# Altium footprint library PCB.PcbLib: 14 footprints
Each footprint in its own frame and in the unit in brackets; x right, y up, seen from the top. Pads: shape width x height; smd on the part's side, far side on the other; paste and mask are expansions set on the pad; w line width, h text height; cw(c..) or ccw(c..) is an arc to the next point about the centre after c.
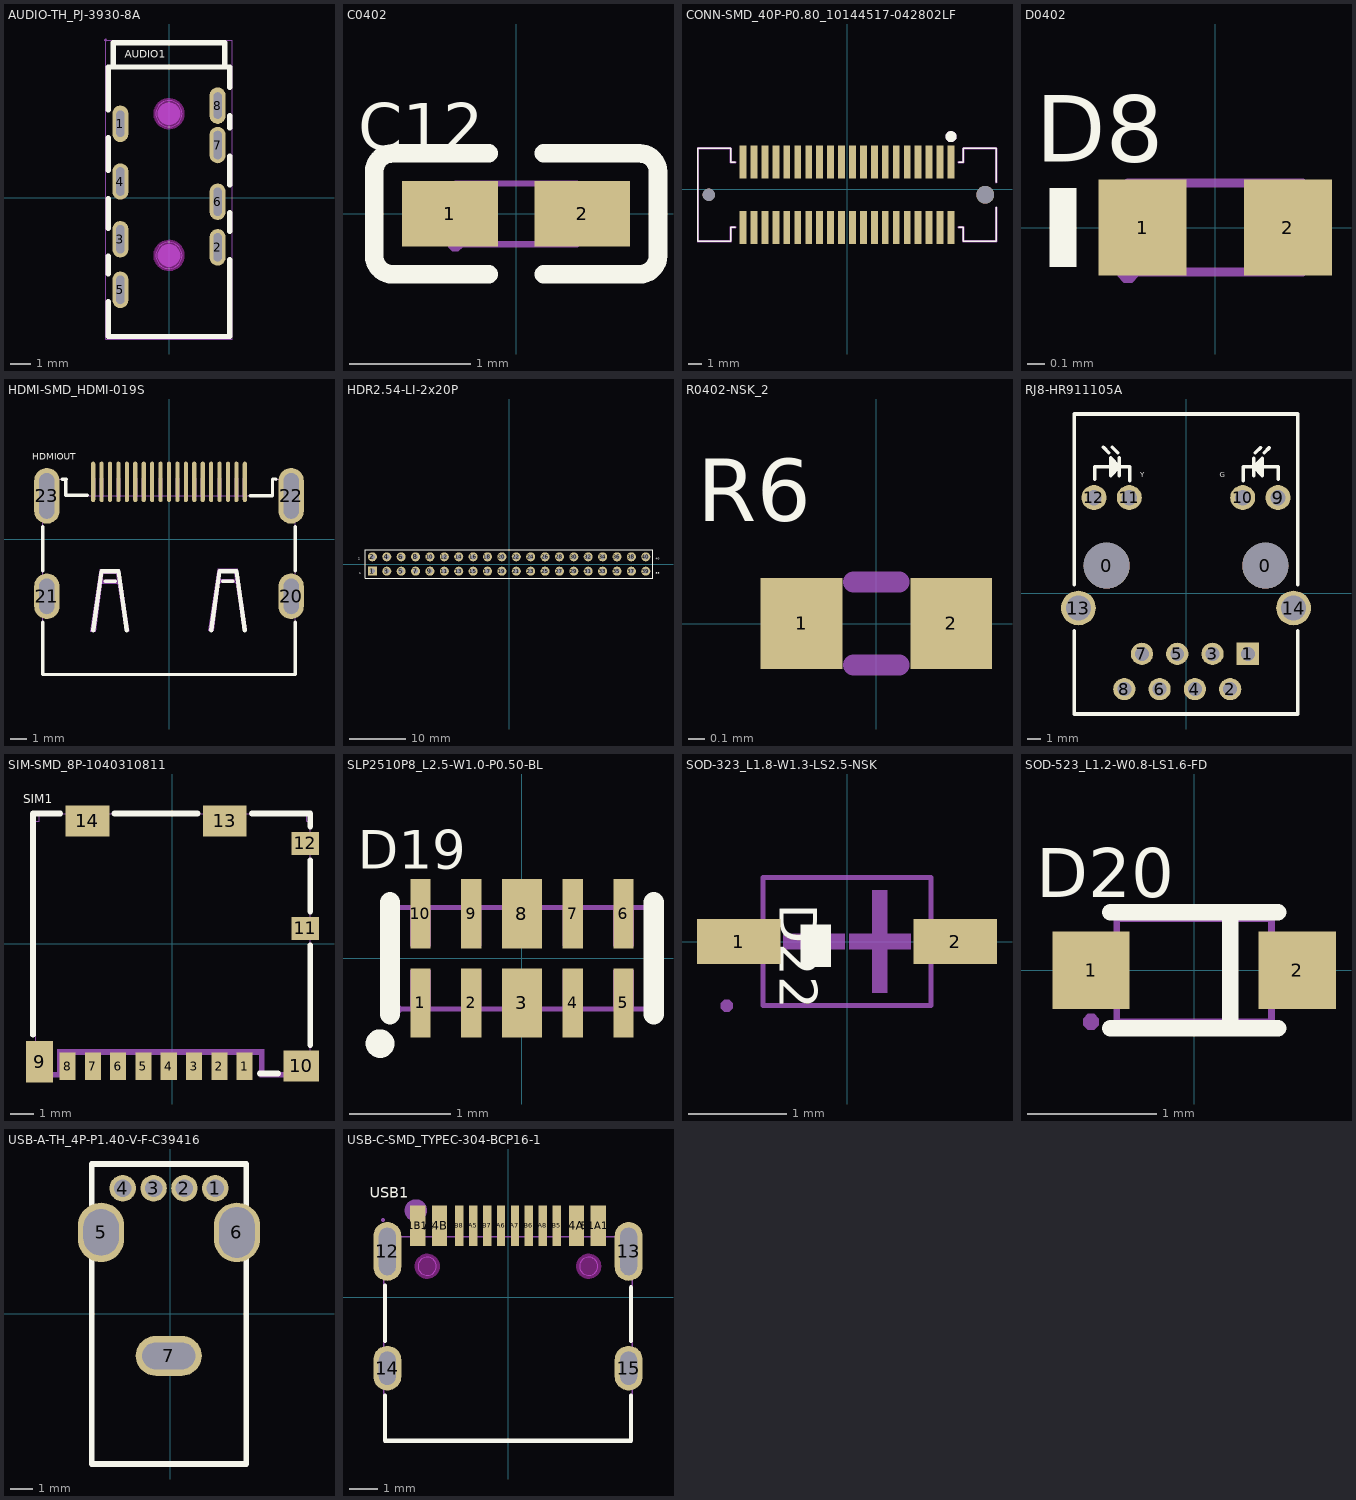
[diagram p0: the footprints below, top view; thin cyan lines are the x and y axes]

## AUDIO-TH_PJ-3930-8A [mil]
pads (8):
  oval 31.5x70.9 hole 15.7 slot 51.2 at 90 deg paste+0 mask+2: 1(-94.5,143.7) 8(94.5,179.1)
  oval 31.5x70.9 hole 15.7 slot 55.1 at 90 deg paste+0 mask+2: 2(94.5,-96.5) 3(-94.5,-80.7) 4(-94.5,31.5) 5(-94.5,-179.1) 6(94.5,-7.9) 7(94.5,102.4)
Top Overlay:
  lines w10: -118.1,-202.4 -118.1,-269.7 118.1,-269.7 118.1,-119.8 ; -118.1,-148 -118.1,-113.9 ; -118.1,-59.5 -118.1,-1.6 ; -118.1,52.8 -118.1,116.5 ; -118.1,170.9 -118.1,253.9 90,253.9 118.1,253.9 118.1,214.2 ; -108.3,253.9 -108.3,301.2 108.3,301.2 108.3,253.9 ; 118.1,-65.4 118.1,-29.2 ; 118.1,25.2 118.1,81 ; 118.1,135.4 118.1,159.8
  text "AUDIO1" at -86.5,272.3 h15
Keep-Out Layer:
  board cut-out: -25.6,-112.2 -25.6,-115.57 -23.86,-122.08 -20.49,-127.92 -15.72,-132.69 -9.88,-136.06 -3.37,-137.8 3.37,-137.8 9.88,-136.06 15.72,-132.69 20.48,-127.92 23.86,-122.08 25.6,-115.57 25.6,-112.2 25.6,-108.83 23.86,-102.32 20.48,-96.48 15.72,-91.72 9.88,-88.34 3.37,-86.6 -3.37,-86.6 -9.88,-88.34 -15.72,-91.72 -20.49,-96.48 -23.86,-102.32 -25.6,-108.83 -25.6,-112.2
  board cut-out: -25.6,163.3 -25.6,159.93 -23.86,153.42 -20.49,147.58 -15.72,142.81 -9.88,139.44 -3.37,137.7 3.37,137.7 9.88,139.44 15.72,142.81 20.48,147.58 23.86,153.42 25.6,159.93 25.6,163.3 25.6,166.67 23.86,173.18 20.48,179.02 15.72,183.78 9.88,187.16 3.37,188.9 -3.37,188.9 -9.88,187.16 -15.72,183.78 -20.49,179.02 -23.86,173.18 -25.6,166.67 -25.6,163.3
Keep-Out Layer:
  circle w10: c0,-112.2 r25.6
  circle w0.2: c0,-112.2 r25.6
  circle w10: c0,163.3 r25.6
  circle w0.2: c0,163.3 r25.6
Mechanical 1:
  circle w0.2: c0,-112.2 r25.6
  circle w0.2: c0,163.3 r25.6
Mechanical 15:
  region: 88.2,161.4 88.2,196.8 100.8,196.8 100.8,161.4
  region: 88.2,82.7 88.2,122.1 100.8,122.1 100.8,82.7
  region: 88.2,-27.6 88.2,11.8 100.8,11.8 100.8,-27.6
  region: -100.8,-198.9 -100.8,-159.5 -88.2,-159.5 -88.2,-198.9
  region: -100.8,11.8 -100.8,51.1 -88.2,51.1 -88.2,11.8
  region: -100.8,-100.3 -100.8,-61 -88.2,-61 -88.2,-100.3
  region: 88.2,-116.1 88.2,-76.7 100.8,-76.7 100.8,-116.1
  region: -100.8,126 -100.8,161.4 -88.2,161.4 -88.2,126
  region: -125.5,306.2 -125.5,305.21 -124.09,303.8 -122.11,303.8 -120.7,305.21 -120.7,306.2 -120.7,307.19 -122.11,308.6 -124.09,308.6 -125.5,307.19 -125.5,306.2
  region: -21.7,-112.2 -21.7,-116.52 -18.4,-124.49 -12.29,-130.6 -4.32,-133.9 4.32,-133.9 12.29,-130.6 18.4,-124.49 21.7,-116.52 21.7,-112.2 21.7,-107.88 18.4,-99.91 12.29,-93.8 4.32,-90.5 -4.32,-90.5 -12.29,-93.8 -18.4,-99.91 -21.7,-107.88 -21.7,-112.2
  region: -21.7,163.3 -21.7,158.98 -18.4,151.01 -12.29,144.9 -4.32,141.6 4.32,141.6 12.29,144.9 18.4,151.01 21.7,158.98 21.7,163.3 21.7,167.62 18.4,175.59 12.29,181.7 4.32,185 -4.32,185 -12.29,181.7 -18.4,175.59 -21.7,167.62 -21.7,163.3
  lines w2: -123.1,-274.7 -123.1,306.2 123.1,306.2 123.1,-274.7 -123.1,-274.7

## C0402 [mm]
pads (2):
  rect 0.79x0.54 smd paste-100 mask+0.051: 1(-0.545,0) 2(0.545,0)
Top Overlay:
  lines w0.152: -0.226,-0.499 -1.016,-0.499 cw(c-1.016,-0.346) -1.169,-0.346 -1.169,0.346 cw(c-1.016,0.346) -1.016,0.499 -0.226,0.499 ; 0.226,-0.499 1.016,-0.499 ccw(c1.016,-0.346) 1.169,-0.346 1.169,0.346 ccw(c1.016,0.346) 1.016,0.499 0.226,0.499
  text "C12" at -1.302,0.527 h0.38
Top Paste:
  region: 0.78,0.225 0.78,-0.225 0.73,-0.275 0.25,-0.275 0.18,-0.225 0.18,0.225 0.25,0.275 0.73,0.275
  region: -0.18,0.225 -0.18,-0.225 -0.25,-0.275 -0.73,-0.275 -0.78,-0.225 -0.78,0.225 -0.73,0.275 -0.25,0.275
Mechanical 15:
  region: 0.5,-0.25 0.5,0.25 0.25,0.25 0.25,-0.25
  region: -0.5,-0.25 -0.5,0.25 -0.25,0.25 -0.25,-0.25
  region: -0.44,-0.25 -0.44,-0.225 -0.475,-0.19 -0.525,-0.19 -0.56,-0.225 -0.56,-0.25 -0.56,-0.275 -0.525,-0.31 -0.475,-0.31 -0.44,-0.275 -0.44,-0.25
  lines w0.051: -0.5,-0.25 0.5,-0.25 0.5,0.25 -0.5,0.25 -0.5,-0.25

## CONN-SMD_40P-P0.80_10144517-042802LF [mm]
pads (42):
  rect 0.5x2.4 smd paste+0 mask+0.051: 1(7.6,1.975) 2(7.6,-2.825) 3(6.8,1.975) 4(6.8,-2.825) 5(6,1.975) 6(6,-2.825) 7(5.2,1.975) 8(5.2,-2.825) 9(4.4,1.975) 10(4.4,-2.825) 11(3.6,1.975) 12(3.6,-2.825) 13(2.8,1.975) 14(2.8,-2.825) 15(2,1.975) 16(2,-2.825) 17(1.2,1.975) 18(1.2,-2.825) 19(0.4,1.975) 20(0.4,-2.825) 21(-0.4,1.975) 22(-0.4,-2.825) 23(-1.2,1.975) 24(-1.2,-2.825) 25(-2,1.975) 26(-2,-2.825) 27(-2.8,1.975) 28(-2.8,-2.825) 29(-3.6,1.975) 30(-3.6,-2.825) 31(-4.4,1.975) 32(-4.4,-2.825) 33(-5.2,1.975) 34(-5.2,-2.825) 35(-6,1.975) 36(-6,-2.825) 37(-6.8,1.975) 38(-6.8,-2.825) 39(-7.6,1.975) 40(-7.6,-2.825)
  round 0.9 hole 0.9 unplated paste+0: ""(-10.1,-0.425)
  round 1.3 hole 1.3 unplated paste+0: ""(10.1,-0.425)
Top Overlay:
  circle w0.4: c7.6,3.825 r0.2
  lines w0.127: -8.165,-2.8 -8.5,-2.8 -8.5,-3.825 -10.9,-3.825 -10.9,2.975 -8.5,2.975 -8.5,1.95 -8.165,1.95 ; 8.165,-2.8 8.5,-2.8 8.5,-3.825 10.9,-3.825 10.9,-1.345 ; 8.165,1.95 8.5,1.95 8.5,2.975 10.9,2.975 10.9,0.495
Mechanical 15:
  circle w0.4: c-10.1,-0.425 r0.2
  circle w0.6: c10.1,-0.425 r0.3
  circle w0.4: c7.6,3.825 r0.2
  region: 8.165,-2.736 8.5,-2.736 8.512,-2.736 8.536,-2.746 8.553,-2.764 8.563,-2.787 8.563,-2.8 8.563,-3.761 10.836,-3.761 10.836,-1.345 10.836,-1.319 10.873,-1.281 10.926,-1.281 10.963,-1.319 10.963,-1.345 10.963,-3.825 10.963,-3.838 10.954,-3.861 10.936,-3.879 10.912,-3.888 10.9,-3.888 8.5,-3.888 8.487,-3.888 8.464,-3.879 8.446,-3.861 8.436,-3.838 8.436,-3.825 8.436,-2.863 8.165,-2.863 8.139,-2.863 8.101,-2.826 8.101,-2.773 8.139,-2.736 8.165,-2.736
  region: 8.165,2.014 8.436,2.014 8.436,2.975 8.436,2.988 8.446,3.011 8.464,3.029 8.487,3.039 8.5,3.039 10.9,3.039 10.912,3.039 10.936,3.029 10.954,3.011 10.963,2.988 10.963,2.975 10.963,0.495 10.963,0.469 10.926,0.432 10.873,0.432 10.836,0.469 10.836,0.495 10.836,2.912 8.563,2.912 8.563,1.95 8.563,1.937 8.553,1.914 8.536,1.896 8.512,1.887 8.5,1.887 8.165,1.887 8.139,1.887 8.101,1.924 8.101,1.976 8.139,2.014 8.165,2.014
  region: -8.165,-2.863 -8.437,-2.863 -8.437,-3.825 -8.437,-3.838 -8.446,-3.861 -8.464,-3.879 -8.487,-3.888 -8.5,-3.888 -10.9,-3.888 -10.913,-3.888 -10.936,-3.879 -10.954,-3.861 -10.964,-3.838 -10.964,-3.825 -10.964,2.975 -10.964,2.988 -10.954,3.011 -10.936,3.029 -10.913,3.039 -10.9,3.039 -8.5,3.039 -8.487,3.039 -8.464,3.029 -8.446,3.011 -8.437,2.988 -8.437,2.975 -8.437,2.014 -8.165,2.014 -8.139,2.014 -8.102,1.976 -8.102,1.924 -8.139,1.887 -8.165,1.887 -8.5,1.887 -8.513,1.887 -8.536,1.896 -8.554,1.914 -8.564,1.937 -8.564,1.95 -8.564,2.912 -10.837,2.912 -10.837,-3.761 -8.564,-3.761 -8.564,-2.8 -8.564,-2.787 -8.554,-2.764 -8.536,-2.746 -8.513,-2.736 -8.5,-2.736 -8.165,-2.736 -8.139,-2.736 -8.102,-2.773 -8.102,-2.826 -8.139,-2.863 -8.165,-2.863

## D0402 [mm]
pads (2):
  rect 0.505x0.551 smd paste-100 mask+0.051: 1(-0.417,0) 2(0.417,0)
Top Overlay:
  region: -0.796,-0.225 -0.796,0.225 -0.949,0.225 -0.949,-0.225
  text "D8" at -1.027,0.377 h0.38
Top Paste:
  region: -0.148,0.235 -0.148,-0.235 -0.188,-0.275 -0.628,-0.275 -0.669,-0.235 -0.669,0.235 -0.628,0.275 -0.188,0.275
  region: 0.148,0.235 0.148,-0.235 0.188,-0.275 0.628,-0.275 0.669,-0.235 0.669,0.235 0.628,0.275 0.188,0.275
Mechanical 6:
  region: -0.439,-0.031 -0.439,0.031 -0.194,0.031 -0.194,-0.031
  region: 0.439,-0.031 0.439,0.031 0.194,0.031 0.194,-0.031
  region: 0.347,-0.204 0.347,0.204 0.286,0.204 0.286,-0.204
Mechanical 15:
  region: -0.5,-0.195 -0.525,-0.196 -0.559,-0.231 -0.559,-0.279 -0.525,-0.314 -0.5,-0.315 -0.476,-0.314 -0.441,-0.279 -0.441,-0.231 -0.476,-0.196 -0.5,-0.195
  region: -0.5,-0.255 -0.5,0.255 -0.26,0.255 -0.26,-0.255
  region: 0.5,-0.255 0.5,0.255 0.26,0.255 0.26,-0.255
  lines w0.051: -0.5,-0.255 -0.5,0.255 0.5,0.255 0.5,-0.255 -0.5,-0.255

## HDMI-SMD_HDMI-019S [mm]
pads (23):
  oval 0.25x2.4 smd paste-100 mask+0.051: 1(4.501,3.396) 2(4.001,3.396) 3(3.501,3.396) 4(3.001,3.396) 5(2.5,3.396) 6(2,3.396) 7(1.5,3.396) 8(1,3.396) 9(0.5,3.396) 10(0,3.396) 11(-0.5,3.396) 12(-1,3.396) 13(-1.5,3.396) 14(-2,3.396) 15(-2.5,3.396) 16(-3.001,3.396) 17(-3.501,3.396) 18(-4.001,3.396) 19(-4.501,3.396)
  oval 1.5x2.7 hole 0.9 slot 2.1 at 90 deg copper offset -0.001,0.001 paste+0 mask+0.051: 20(7.251,-3.397)
  oval 1.5x2.7 hole 0.9 slot 2.1 at 90 deg copper offset 0.001,0.001 paste+0 mask+0.051: 21(-7.251,-3.397)
  oval 1.5x3.3 hole 0.9 slot 2.7 at 90 deg copper offset -0.001,0.001 paste+0 mask+0.051: 22(7.251,2.563)
  oval 1.5x3.3 hole 0.9 slot 2.7 at 90 deg copper offset 0.001,0.001 paste+0 mask+0.051: 23(-7.251,2.563)
Top Overlay:
  lines w0.2: -7.5,-4.917 -7.5,-8.036 7.5,-8.036 7.5,-4.917 ; -7.5,-1.875 -7.5,0.743 ; -6.35,3.557 -6.107,3.557 -6.107,3.545 -6.12,3.545 -6.12,2.592 -4.837,2.592 ; -3.8,-2.504 -3.2,-2.504 ; 3.2,-2.504 3.8,-2.504 ; 4.83,2.565 6.08,2.565 6.08,2.575 6.145,2.575 6.145,3.563 6.352,3.563 6.352,3.556 ; 7.5,-1.876 7.5,0.743
  lines w0.254: -4.5,-5.404 -4,-1.904 -3,-1.904 -2.5,-5.404 ; 2.5,-5.404 3,-1.904 4,-1.904 4.5,-5.404
  text "HDMIOUT" at -8.127,4.698 h0.38
Top Paste:
  drawing of 23 lines, arcs and shapes, not listed
Mechanical 6:
  region: 2.332,-5.448 2.642,-5.448 3.084,-2.014 3.875,-2.005 4.392,-5.457 4.627,-5.439 4.082,-1.751 2.896,-1.751
  region: 3.047,-2.381 3.884,-2.362 3.931,-2.598 3.037,-2.607
  region: -3.951,-2.419 -3.114,-2.4 -3.067,-2.636 -3.961,-2.645
  region: -4.666,-5.486 -4.356,-5.486 -3.914,-2.052 -3.123,-2.043 -2.606,-5.495 -2.371,-5.477 -2.916,-1.789 -4.102,-1.789
Mechanical 15:
  region: 4.391,3.596 4.611,3.596 4.611,2.496 4.391,2.496
  region: 7,-2.896 7.5,-2.896 7.5,-3.896 7,-3.896
  region: -7.5,-2.896 -7,-2.896 -7,-3.896 -7.5,-3.896
  region: -7.5,3.564 -7,3.564 -7,1.564 -7.5,1.564
  region: 7,3.564 7.5,3.564 7.5,1.564 7,1.564
  region: -0.11,3.596 0.11,3.596 0.11,2.496 -0.11,2.496
  region: 0.39,3.596 0.61,3.596 0.61,2.496 0.39,2.496
  region: 0.89,3.596 1.11,3.596 1.11,2.496 0.89,2.496
  region: 1.39,3.596 1.61,3.596 1.61,2.496 1.39,2.496
  region: 1.89,3.596 2.11,3.596 2.11,2.496 1.89,2.496
  region: 2.39,3.596 2.61,3.596 2.61,2.496 2.39,2.496
  region: 2.891,3.596 3.111,3.596 3.111,2.496 2.891,2.496
  region: 3.391,3.596 3.611,3.596 3.611,2.496 3.391,2.496
  region: 3.891,3.596 4.111,3.596 4.111,2.496 3.891,2.496
  region: -0.61,3.596 -0.39,3.596 -0.39,2.496 -0.61,2.496
  region: -1.11,3.596 -0.89,3.596 -0.89,2.496 -1.11,2.496
  region: -1.61,3.596 -1.39,3.596 -1.39,2.496 -1.61,2.496
  region: -2.11,3.596 -1.89,3.596 -1.89,2.496 -2.11,2.496
  region: -2.61,3.596 -2.39,3.596 -2.39,2.496 -2.61,2.496
  region: -3.111,3.596 -2.891,3.596 -2.891,2.496 -3.111,2.496
  region: -3.611,3.596 -3.391,3.596 -3.391,2.496 -3.611,2.496
  region: -4.111,3.596 -3.891,3.596 -3.891,2.496 -4.111,2.496
  region: -4.611,3.596 -4.391,3.596 -4.391,2.496 -4.611,2.496
  region: 7.56,3.596 7.56,3.621 7.525,3.655 7.476,3.655 7.441,3.621 7.44,3.596 7.441,3.572 7.476,3.537 7.525,3.537 7.56,3.572 7.56,3.596
  lines w0.051: -7.5,-8.036 -7.5,3.564 -6.1,3.564 -6.1,2.567 6.1,2.567 6.1,3.564 7.5,3.564 7.5,-8.036 -7.5,-8.036

## HDR2.54-LI-2x20P [mm]
pads (40):
  rect 1.6x1.6 hole 0.9: 1(-24.13,-1.27)
  round 1.6 hole 0.9: 2(-24.13,1.27) 3(-21.59,-1.27) 4(-21.59,1.27) 5(-19.05,-1.27) 6(-19.05,1.27) 7(-16.51,-1.27) 8(-16.51,1.27) 9(-13.97,-1.27) 10(-13.97,1.27) 11(-11.43,-1.27) 12(-11.43,1.27) 13(-8.89,-1.27) 14(-8.89,1.27) 15(-6.35,-1.27) 16(-6.35,1.27) 17(-3.81,-1.27) 18(-3.81,1.27) 19(-1.27,-1.27) 20(-1.27,1.27) 21(1.27,-1.27) 22(1.27,1.27) 23(3.81,-1.27) 24(3.81,1.27) 25(6.35,-1.27) 26(6.35,1.27) 27(8.89,-1.27) 28(8.89,1.27) 29(11.43,-1.27) 30(11.43,1.27) 31(13.97,-1.27) 32(13.97,1.27) 33(16.51,-1.27) 34(16.51,1.27) 35(19.05,-1.27) 36(19.05,1.27) 37(21.59,-1.27) 38(21.59,1.27) 39(24.13,-1.27) 40(24.13,1.27)
Top Overlay:
  lines w0.2: -25.4,-2.54 -25.4,2.54 25.4,2.54 25.4,-2.54 -25.4,-2.54
  text "39" at 25.908,-1.778 h0.38
  text "40" at 25.908,0.762 h0.38
  text "2" at -26.67,0.762 h0.38
  text "1" at -26.416,-1.778 h0.38
3D body: height 8.5, standoff -3, extent -22.86,-2.54 -20.32,2.54
3D body: height 8.5, standoff -3, extent -25.4,-2.54 -22.86,2.54
3D body: height 8.5, standoff -3, extent -17.78,-2.54 -15.24,2.54
3D body: height 8.5, standoff -3, extent -20.32,-2.54 -17.78,2.54
3D body: height 8.5, standoff -3, extent -12.7,-2.54 -10.16,2.54
3D body: height 8.5, standoff -3, extent -15.24,-2.54 -12.7,2.54
3D body: height 8.5, standoff -3, extent -7.62,-2.54 -5.08,2.54
3D body: height 8.5, standoff -3, extent -10.16,-2.54 -7.62,2.54
3D body: height 8.5, standoff -3, extent -2.54,-2.54 0,2.54
3D body: height 8.5, standoff -3, extent -5.08,-2.54 -2.54,2.54
3D body: height 8.5, standoff -3, extent 2.54,-2.54 5.08,2.54
3D body: height 8.5, standoff -3, extent 0,-2.54 2.54,2.54
3D body: height 8.5, standoff -3, extent 7.62,-2.54 10.16,2.54
3D body: height 8.5, standoff -3, extent 5.08,-2.54 7.62,2.54
3D body: height 8.5, standoff -3, extent 12.7,-2.54 15.24,2.54
3D body: height 8.5, standoff -3, extent 10.16,-2.54 12.7,2.54
3D body: height 8.5, standoff -3, extent 17.78,-2.54 20.32,2.54
3D body: height 8.5, standoff -3, extent 15.24,-2.54 17.78,2.54
3D body: height 8.5, standoff -3, extent 22.86,-2.54 25.4,2.54
3D body: height 8.5, standoff -3, extent 20.32,-2.54 22.86,2.54

## R0402-NSK_2 [mil]
pads (2):
  rect 19.68x22 smd paste+0 mask+2: 1(-18,0) 2(18,0)
Top Overlay:
  text "R6" at -43.17,24.63 h15
Mechanical 6:
  lines w5: -5.5,-10 5.5,-10 ; -5.5,10 5.5,10

## RJ8-HR911105A [mm]
pads (16):
  round 3.3 hole 3.3 unplated: 0(-5.715,1.995) 0(5.715,1.995)
  rect 1.6x1.6 hole 1: 1(4.45,-4.355)
  round 1.6 hole 1: 2(3.18,-6.895) 3(1.91,-4.355) 4(0.64,-6.895) 5(-0.63,-4.355) 6(-1.9,-6.895) 7(-3.17,-4.355) 8(-4.44,-6.895)
  round 1.8 hole 1.1: 9(6.625,6.895) 10(4.085,6.895) 11(-4.085,6.895) 12(-6.625,6.895)
  round 2.5 hole 1.8: 13(-7.745,-1.055) 14(7.745,-1.055)
Top Overlay:
  lines w0.25: -6.577,8.23 -6.577,9.119 -4.037,9.119 -4.037,8.103 ; -5.942,10.516 -5.561,10.135 ; -5.307,10.516 -4.926,10.135 ; -5.207,8.726 -5.207,9.527 ; -4.799,8.484 -4.799,9.754 ; 4.106,8.091 4.106,9.107 6.646,9.107 6.646,8.218 ; 4.868,8.472 4.868,9.742 ; 4.995,10.123 5.376,10.504 ; 5.276,8.714 5.276,9.515 ; 5.63,10.123 6.011,10.504 ; -5.434,8.484 -4.799,9.119 -5.434,9.754 -5.434,8.484 ; 4.868,9.107 5.503,8.472 5.503,9.742 4.868,9.107
  lines w0.254: -8.05,-8.685 8.05,-8.685 8.05,-2.685 ; -8.05,-8.685 -8.05,-2.685 ; -8.05,0.615 -8.05,12.915 8.05,12.915 8.05,0.615
  text "Y" at -3.302,8.345 h0.38
  text "G" at 2.413,8.345 h0.38
Mechanical 15:
  circle w0.2: c5.03,-4.96 r0.1
3D body: height 1.5, standoff -15, extent -8.001,-8.578 7.879,12.822

## SIM-SMD_8P-1040310811 [mm]
pads (14):
  rect 0.7x1.2 smd paste+0 mask+0.051: 1(3.138,-5.337) 2(2.037,-5.337) 3(0.938,-5.337) 4(-0.162,-5.337) 5(-1.263,-5.337) 6(-2.363,-5.337) 7(-3.462,-5.337) 8(-4.562,-5.337)
  rect 1.17x1.8 smd paste+0 mask+0.051: 9(-5.773,-5.138)
  rect 1.55x1.35 smd paste+0 mask+0.051: 10(5.598,-5.313)
  rect 1.2x1 smd paste+0 mask+0.051: 11(5.773,0.663) 12(5.773,4.363)
  rect 1.9x1.35 smd paste+0 mask+0.051: 13(2.273,5.337) 14(-3.697,5.337)
Top Overlay:
  lines w0.254: -6.071,-3.956 -6.071,5.665 -4.879,5.665 ; -2.516,5.665 1.091,5.665 ; 3.454,5.665 5.994,5.665 5.994,5.094 ; 3.794,-5.638 4.591,-5.638 ; 5.994,-4.406 5.994,-0.069 ; 5.994,1.394 5.994,3.631
  text "SIM1" at -6.485,6.114 h0.38
Mechanical 6:
  region: -6,-5.8 -4.8,-5.8 -4.8,-5.6 -6,-5.6
  region: 3.8,-5.8 6,-5.8 6,-5.6 3.8,-5.6
  region: 3.8,-5.6 3.8,-4.8 4,-4.8 4,-5.6
  region: -4.8,-5.6 -4.8,-4.8 -5,-4.8 -5,-5.6
  region: -5,-4.8 4,-4.8 4,-4.6 -5,-4.6
Mechanical 15:
  region: 6.002,-5.69 5.978,-5.691 5.944,-5.726 5.944,-5.774 5.978,-5.809 6.002,-5.81 6.026,-5.809 6.06,-5.774 6.06,-5.726 6.026,-5.691 6.002,-5.69
  region: -5.963,-4.437 -5.313,-4.437 -5.313,-5.738 -5.963,-5.738
  region: 5.002,-4.9 6.002,-4.9 6.002,-5.75 5.002,-5.75
  region: 5.352,0.988 6.002,0.988 6.002,0.338 5.352,0.338
  region: 5.352,4.688 6.002,4.688 6.002,4.038 5.352,4.038
  region: 1.572,5.65 2.972,5.65 2.972,4.75 1.572,4.75
  region: -4.397,5.65 -2.997,5.65 -2.997,4.75 -4.397,4.75
  region: -4.732,-4.75 -4.392,-4.75 -4.392,-5.7 -4.732,-5.7
  region: -3.632,-4.75 -3.292,-4.75 -3.292,-5.7 -3.632,-5.7
  region: -2.533,-4.75 -2.193,-4.75 -2.193,-5.7 -2.533,-5.7
  region: -1.432,-4.75 -1.092,-4.75 -1.092,-5.7 -1.432,-5.7
  region: -0.332,-4.75 0.008,-4.75 0.008,-5.7 -0.332,-5.7
  region: 0.768,-4.75 1.108,-4.75 1.108,-5.7 0.768,-5.7
  region: 1.867,-4.75 2.207,-4.75 2.207,-5.7 1.867,-5.7
  region: 2.968,-4.75 3.308,-4.75 3.308,-5.7 2.968,-5.7
  lines w0.051: -5.95,-5.75 -4.86,-5.75 -4.86,-4.8 3.8,-4.8 3.8,-5.75 6,-5.75 6,5.33 5.85,5.33 5.85,5.65 -5.8,5.65 -5.8,5.33 -5.95,5.33 -5.95,-5.75

## SLP2510P8_L2.5-W1.0-P0.50-BL [mm]
pads (10):
  rect 0.201x0.681 smd paste+0 mask+0.051: 1(-1.001,-0.439) 2(-0.5,-0.439) 4(0.5,-0.439) 5(1.001,-0.439) 6(1.001,0.439) 7(0.5,0.439) 9(-0.5,0.439) 10(-1.001,0.439)
  rect 0.399x0.681 smd paste+0 mask+0.051: 3(0,-0.439) 8(0,0.439)
Top Overlay:
  circle w0.201: c-1.4,-0.841 r0.041
  lines w0.201: -1.3,-0.551 -1.3,0.551 ; 1.3,-0.551 1.3,0.551
  text "D19" at -1.617,0.881 h0.38
Mechanical 6:
  circle w0.099: c-1.001,-0.439 r0.051
Mechanical 15:
  region: 0.191,0.119 -0.191,0.119 -0.191,0.521 0.191,0.521
  region: -1.1,-0.119 -0.899,-0.119 -0.899,-0.5 -1.1,-0.5
  region: -0.599,-0.119 -0.401,-0.119 -0.401,-0.5 -0.599,-0.5
  region: -0.191,-0.119 0.191,-0.119 0.191,-0.521 -0.191,-0.521
  region: 0.599,0.119 0.401,0.119 0.401,0.5 0.599,0.5
  region: 1.1,0.119 0.899,0.119 0.899,0.5 1.1,0.5
  region: -0.899,0.119 -1.1,0.119 -1.1,0.5 -0.899,0.5
  region: -0.401,0.119 -0.599,0.119 -0.599,0.5 -0.401,0.5
  region: 0.899,-0.119 1.1,-0.119 1.1,-0.5 0.899,-0.5
  region: 0.401,-0.119 0.599,-0.119 0.599,-0.5 0.401,-0.5
  region: -1.311,-0.5 -1.311,-0.526 -1.275,-0.561 -1.224,-0.561 -1.189,-0.526 -1.189,-0.5 -1.189,-0.475 -1.224,-0.439 -1.275,-0.439 -1.311,-0.475 -1.311,-0.5
  lines w0.051: -1.25,-0.5 -1.25,0.5 1.25,0.5 1.25,-0.5 -1.25,-0.5

## SOD-323_L1.8-W1.3-LS2.5-NSK [mm]
pads (2):
  rect 0.846x0.455 smd paste+0 mask+0.051: 1(-1.097,0) 2(1.097,0)
Top Overlay:
  region: -0.165,0.168 -0.165,-0.254 -0.47,-0.254 -0.47,0.168
  text "D22" at -0.682,0.381 h0.38
Mechanical 6:
  region: -0.645,0.079 -0.645,-0.079 -0.02,-0.079 -0.02,0.079
  region: 0.645,0.079 0.645,-0.079 0.02,-0.079 0.02,0.079
  region: 0.409,0.521 0.409,-0.521 0.254,-0.521 0.254,0.521
Mechanical 15:
  region: -1.28,-0.65 -1.28,-0.675 -1.244,-0.711 -1.194,-0.711 -1.158,-0.675 -1.158,-0.65 -1.158,-0.625 -1.194,-0.589 -1.244,-0.589 -1.28,-0.625 -1.28,-0.65
  region: -0.841,0.16 -0.841,-0.16 -0.96,-0.16 -0.96,0.16
  region: -0.95,0.16 -0.95,-0.16 -1.25,-0.16 -1.25,0.16
  region: 0.96,0.16 0.96,-0.16 0.841,-0.16 0.841,0.16
  region: 1.25,0.16 1.25,-0.16 0.95,-0.16 0.95,0.16
  lines w0.051: -0.851,-0.65 0.851,-0.65 0.851,0.65 -0.851,0.65 -0.851,-0.65

## SOD-523_L1.2-W0.8-LS1.6-FD [mil]
pads (2):
  rect 23.6x23.6 smd paste+0 mask+2: 1(-31.5,0) 2(31.5,0)
Top Overlay:
  lines w5.1: -25.6,-17.7 25.6,-17.7 ; -25.6,17.7 25.6,17.7 ; 11,-17.5 11,16
  text "D20" at -48.3,22.25 h15
Mechanical 6:
  region: -34.5,10.5 -30.6,10.5 -30.6,-11.2 -34.5,-11.2
  region: 23.6,2 37.4,2 37.4,-2 23.6,-2
  region: -39.4,2 -25.6,2 -25.6,-2 -39.4,-2
Mechanical 15:
  region: 31.5,-5.9 20,-5.9 20,5.9 31.5,5.9
  region: -31.5,5.9 -20,5.9 -20,-5.9 -31.5,-5.9
  region: -33.9,-15.7 -33.9,-16.69 -32.49,-18.1 -30.51,-18.1 -29.1,-16.69 -29.1,-15.7 -29.1,-14.71 -30.51,-13.3 -32.49,-13.3 -33.9,-14.71 -33.9,-15.7
  lines w2: -23.6,-15.7 -23.6,15.7 23.6,15.7 23.6,-15.7 -23.6,-15.7

## USB-A-TH_4P-P1.40-V-F-C39416 [mm]
pads (7):
  round 1.2 hole 0.8 paste+0 mask+0.051: 1(2.048,5.685) 2(0.648,5.685) 3(-0.749,5.685) 4(-2.148,5.685)
  oval 2.1x2.7 hole 1.6 slot 2.1 at 90 deg paste+0 mask+0.051: 5(-3.13,3.685)
  oval 2.1x2.7 hole 1.6 slot 2.3 at 90 deg paste+0 mask+0.051: 6(3.03,3.685)
  oval 3x1.8 hole 1.2 slot 2.4 at 0 deg paste+0 mask+0.051: 7(-0.06,-1.915)
Top Overlay:
  lines w0.254: -3.55,-6.815 -3.55,6.785 3.45,6.785 3.45,-6.815 -3.55,-6.815

## USB-C-SMD_TYPEC-304-BCP16-1 [mil]
pads (16):
  oval 39.4x82.7 hole 23.6 slot 66.9 at 90 deg paste+0 mask+1.97: 12(-170.1,64.3) 13(170.1,64.3)
  oval 39.4x63 hole 23.6 slot 47.2 at 90 deg paste+0 mask+1.97: 14(-170.1,-100.3) 15(170.1,-100.3)
  rect 21.7x57.1 smd paste-3937.01 mask+1.97: A1B12(-127,100.3) A4B9(-96.5,100.3) B1A12(127,100.3) B4A9(96.5,100.3)
  rect 11.8x57.1 smd paste-3937.01 mask+1.97: A5(-49.2,100.3) A6(-9.8,100.3) A7(9.8,100.3) A8(49.2,100.3) B5(68.9,100.3) B6(29.5,100.3) B7(-29.5,100.3) B8(-68.9,100.3)
Top Overlay:
  lines w5.9: -173.2,-138.7 -173.2,-202.6 173.2,-202.6 173.2,-138.7 ; -173.2,-61.9 -173.2,16.1 ; 173.2,-61.9 173.2,13.9
  text "USB1" at -194.77,139.85 h15
Top Paste:
  drawing of 16 lines, arcs and shapes, not listed
Keep-Out Layer:
  board cut-out: -101,43.4 -101,45.95 -102.95,50.65 -106.55,54.25 -111.25,56.2 -116.35,56.2 -121.05,54.25 -124.65,50.65 -126.6,45.95 -126.6,43.4 -126.6,40.85 -124.65,36.15 -121.05,32.55 -116.35,30.6 -111.25,30.6 -106.55,32.55 -102.95,36.15 -101,40.85 -101,43.4
  board cut-out: 126.6,43.4 126.6,45.95 124.65,50.65 121.05,54.25 116.35,56.2 111.25,56.2 106.55,54.25 102.95,50.65 101,45.95 101,43.4 101,40.85 102.95,36.15 106.55,32.55 111.25,30.6 116.35,30.6 121.05,32.55 124.65,36.15 126.6,40.85 126.6,43.4
Keep-Out Layer:
  circle w0.2: c-113.8,43.4 r12.8
  circle w10: c-113.8,43.4 r12.8
  circle w0.2: c113.8,43.4 r12.8
  circle w10: c113.8,43.4 r12.8
Mechanical 1:
  circle w0.2: c-113.8,43.4 r12.8
  circle w0.2: c113.8,43.4 r12.8
Mechanical 6:
  circle w15.7: c-129.9,122.1 r7.9
Mechanical 15:
  region: -173.6,108.4 -173.6,109.39 -175.01,110.8 -176.99,110.8 -178.4,109.39 -178.4,108.4 -178.4,107.41 -176.99,106 -175.01,106 -173.6,107.41 -173.6,108.4
  region: -72.8,108.4 -65,108.4 -65,73 -72.8,73
  region: -53.1,108.4 -45.3,108.4 -45.3,73 -53.1,73
  region: -33.5,108.4 -25.6,108.4 -25.6,73 -33.5,73
  region: -13.8,108.4 -5.9,108.4 -5.9,73 -13.8,73
  region: 5.9,108.4 13.8,108.4 13.8,73 5.9,73
  region: 25.6,108.4 33.5,108.4 33.5,73 25.6,73
  region: 45.3,108.4 53.1,108.4 53.1,73 45.3,73
  region: 65,108.4 72.8,108.4 72.8,73 65,73
  region: -134.8,108.4 -119.1,108.4 -119.1,73 -134.8,73
  region: -104.3,108.4 -88.6,108.4 -88.6,73 -104.3,73
  region: 88.6,108.4 104.3,108.4 104.3,73 88.6,73
  region: 119.1,108.4 134.8,108.4 134.8,73 119.1,73
  region: -176,84.9 -164.2,84.9 -164.2,43.6 -176,43.6
  region: 164.2,84.9 176,84.9 176,43.6 164.2,43.6
  region: -176,-84.5 -164.2,-84.5 -164.2,-116 -176,-116
  region: 164.2,-84.5 176,-84.5 176,-116 164.2,-116
  lines w2: -175.2,-202.6 -175.2,84.8 175.2,84.8 175.2,-202.6 -175.2,-202.6